# EAGLE library part CHS-06 (library switch-copal)
Copal Electronics, Distributor Bürklin
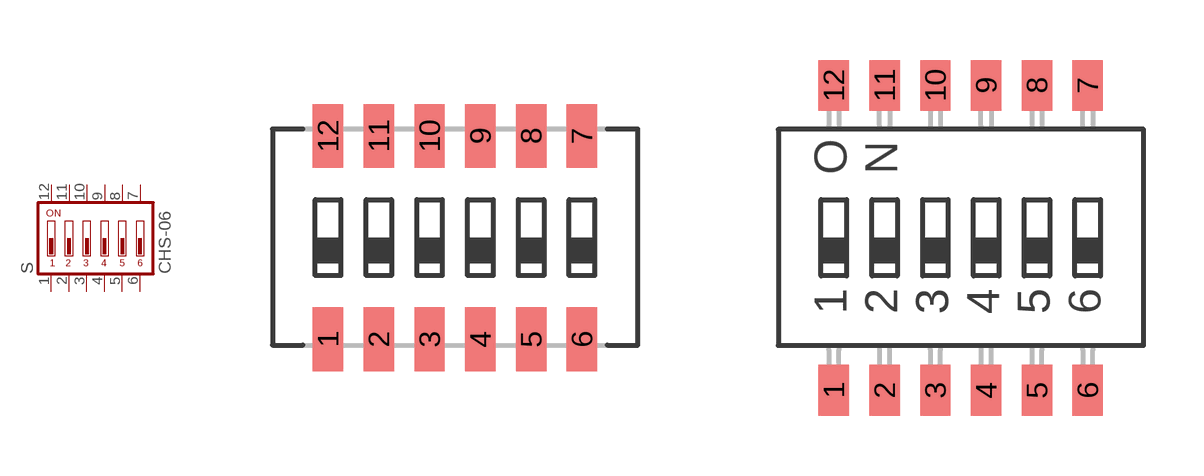
[diagram p0: symbol with the pads of CHS-06A; footprints CHS-06A, CHS-06B]

Designator prefix S

## CHS-06A  [CHS-06A]
1  1  pas
2  2  pas
3  3  pas
4  4  pas
5  5  pas
6  6  pas
7  7  pas
8  8  pas
9  9  pas
10  10  pas
11  11  pas
12  12  pas

## CHS-06B  [CHS-06B]
Pads as for CHS-06A

## Footprint CHS-06A (pad centres in mm)
6 bits, J-hook
smd 0.76 x 1.6: 1 0,-2.54; 2 1.27,-2.54; 3 2.54,-2.54; 4 3.81,-2.54; 5 5.08,-2.54; 6 6.35,-2.54; 7 6.35,2.54; 8 5.08,2.54; 9 3.81,2.54; 10 2.54,2.54; 11 1.27,2.54; 12 0,2.54

## Footprint CHS-06B (pad centres in mm)
6 bits, gull wing
smd 0.76 x 1.27: 1 0,-3.81; 2 1.27,-3.81; 3 2.54,-3.81; 4 3.81,-3.81; 5 5.08,-3.81; 6 6.35,-3.81; 7 6.35,3.81; 8 5.08,3.81; 9 3.81,3.81; 10 2.54,3.81; 11 1.27,3.81; 12 0,3.81